# Altium schematic symbol library U_MCP65R41_SOT23-6.SchLib: 1 symbol
Pins are listed as number, name and electrical type; pins without a type are passive.

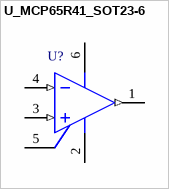
[diagram p0: symbol U_MCP65R41_SOT23-6]

## U_MCP65R41_SOT23-6
designator U?
Comparator with Integrated Reference Voltage
pins: 1 OUT (out), 2 VSS (power), 3 VIN+ (in), 4 VIN- (in), 5 VREF (power), 6 VDD (power)